# Altium footprint library My Little Freind.PcbLib: 15 footprints
Each footprint in its own frame and in the unit in brackets; x right, y up, seen from the top. Pads: shape width x height; smd on the part's side, far side on the other; paste and mask are expansions set on the pad; w line width, h text height; cw(c..) or ccw(c..) is an arc to the next point about the centre after c.
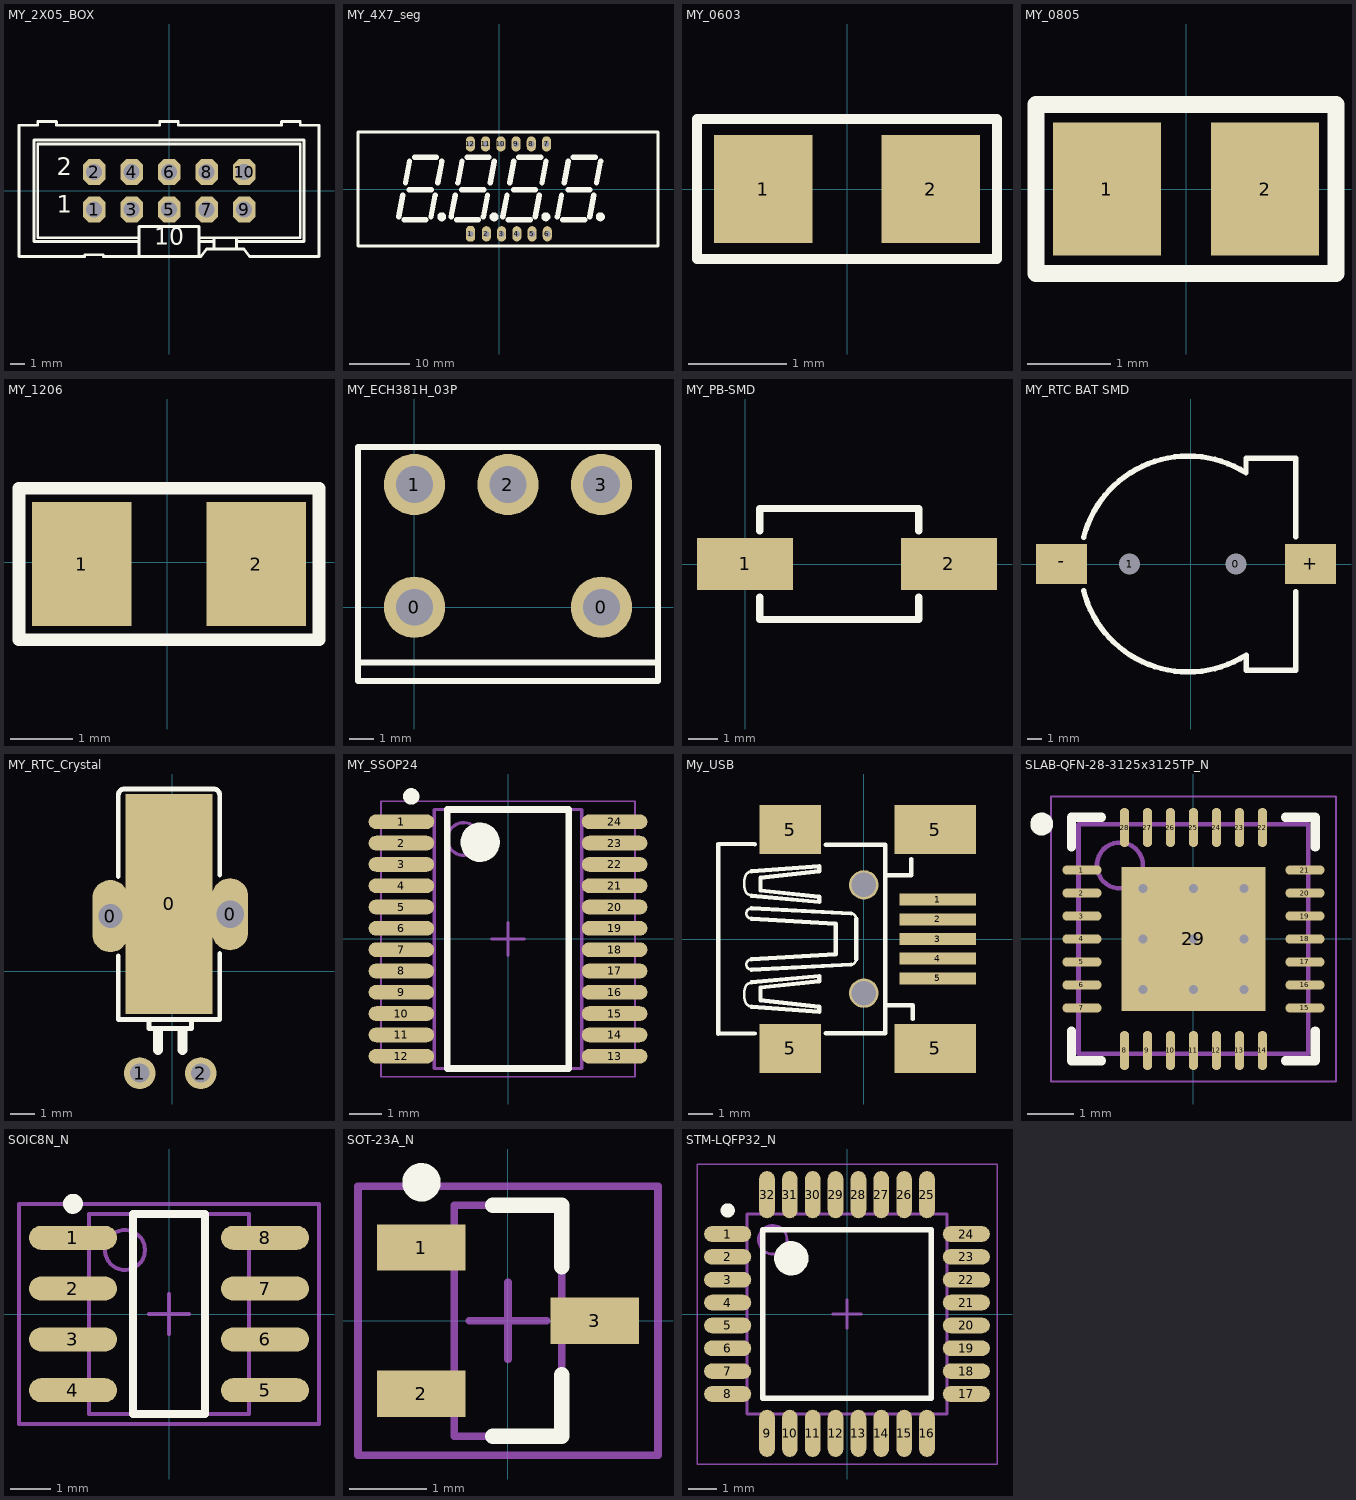
[diagram p0: the footprints below, top view; thin cyan lines are the x and y axes]

## MY_2X05_BOX [mil]
pads (10):
  oct 60x70 hole 43.31: 1(-200,-50) 2(-200,50) 3(-100,-50) 4(-100,50) 5(0,-50) 6(0,50) 7(100,-50) 8(100,50) 9(200,-50) 10(200,50)
Top Overlay:
  lines w7: -80,-175 -175,-175 -175,-170 -225,-170 -225,-175 -400,-175 -400,175 -350,175 -350,185 -300,185 -300,175 -25,175 -25,185 25,185 25,175 300,175 300,185 350,185 350,175 400,175 400,-175 215,-175 200,-155 180,-155 ; -80,-175 -80,-135 -80,-125 ; -80,-175 80,-175 ; -80,-125 -350,-125 -350,125 350,125 350,-125 180,-125 ; -80,-125 -80,-95 80,-95 80,-125 ; 80,-175 80,-135 80,-125 ; 80,-175 85,-175 100,-155 120,-155 ; 80,-125 120,-125 ; 120,-155 180,-155 ; 120,-155 120,-135 120,-125 ; 120,-125 180,-125 ; 180,-155 180,-135 180,-125
  lines w8: -80,-135 -360,-135 -360,135 360,135 360,-135 180,-135 ; 80,-135 120,-135
  text "2" at -300,25 h80
  text "1" at -300,-75 h80
  text "10" at -40,-160 h79
3D body "SW3dPS-HDB-10.STEP": height 347.06, standoff -117.51, extent -399.63,-179.07 395.64,191.01

## MY_4X7_seg [mm]
pads (12):
  oct 1.524x2.54 hole 1: 1(-4.8,-7.424)
  oval 1.524x2.54 hole 1: 2(-2.133,-7.424) 3(0.407,-7.424) 4(2.947,-7.424) 5(5.487,-7.424) 6(8.027,-7.424) 7(7.9,7.576) 8(5.36,7.576) 9(2.82,7.576) 10(0.28,7.576) 11(-2.26,7.576) 12(-4.8,7.576)
Top Overlay:
  circle w0.889: c-9.585,-4.589 r0.296
  circle w0.889: c-0.848,-4.589 r0.296
  circle w0.889: c16.882,-4.589 r0.296
  circle w0.889: c7.788,-4.589 r0.296
  lines w0.508: -23.546,-9.474 26.492,-9.474 ; -23.546,-9.424 -23.546,9.576 26.454,9.576 ; 26.492,-9.424 26.492,9.576
  lines w0.889: -16.757,-4.596 -16.075,-0.967 ; -15.862,-5.058 -12.211,-5.055 ; -15.624,1.064 -14.942,4.697 ; -14.978,-0.051 -11.329,-0.051 ; -14.1,5.358 -10.451,5.358 ; -11.37,-4.598 -10.685,-0.967 ; -10.238,1.065 -9.55,4.697 ; -8.019,-4.596 -7.337,-0.967 ; -7.124,-5.058 -3.474,-5.055 ; -6.886,1.064 -6.205,4.697 ; -6.241,-0.051 -2.592,-0.051 ; -5.362,5.358 -1.713,5.358 ; -2.633,-4.598 -1.947,-0.967 ; -1.501,1.065 -0.813,4.697 ; 0.617,-4.596 1.299,-0.967 ; 1.512,-5.058 5.162,-5.055 ; 1.75,1.064 2.431,4.697 ; 2.395,-0.051 6.044,-0.051 ; 3.274,5.358 6.923,5.358 ; 6.003,-4.598 6.689,-0.967 ; 7.135,1.065 7.823,4.697 ; 9.71,-4.596 10.392,-0.967 ; 10.605,-5.058 14.256,-5.055 ; 10.843,1.064 11.524,4.697 ; 11.488,-0.051 15.137,-0.051 ; 12.367,5.358 16.016,5.358 ; 15.097,-4.598 15.782,-0.967 ; 16.228,1.065 16.916,4.697
3D body "SW3dPS-ldq-n516r1.STEP": height 8.02, standoff -3.48, extent -23.571,-9.576 26.729,9.424

## MY_0603 [mm]
pads (2):
  rect 1x1.1 smd: 1(-0.85,0) 2(0.85,0)
Top Overlay:
  lines w0.102: -1.524,-0.711 1.524,-0.711 1.524,0.711 -1.524,0.711 -1.524,-0.711
3D body "User Library-SMD RESISTOR-1.STEP": height 0.44, standoff -0.01, extent -0.8,-0.4 0.8,0.4

## MY_0805 [mm]
pads (2):
  rect 1.3x1.6 smd: 1(-0.95,0) 2(0.95,0)
Top Overlay:
  lines w0.203: -1.803,-1.016 -1.803,1.016 1.803,1.016 1.803,-1.016 -1.803,-1.016
3D body "User Library-SMD RESISTOR-1.STEP": height 0.59, standoff -0.01, extent -1,-0.625 1,0.625

## MY_1206 [mm]
pads (2):
  rect 1.6x2 smd: 1(-1.375,-0.025) 2(1.425,-0.025)
Top Overlay:
  lines w0.203: -2.388,-1.245 -2.388,1.194 2.438,1.194 2.438,-1.245 -2.388,-1.245
3D body "User Library-SMD RESISTOR-1.STEP": height 0.59, standoff -0.01, extent -1.575,-0.825 1.625,0.775

## MY_ECH381H_03P [mm]
pads (5):
  round 2.5 hole 1.5: 0(0,0) 0(7.62,0) 1(0,5) 2(3.81,5) 3(7.62,5)
Top Overlay:
  lines w0.254: -2.25,-2.25 9.9,-2.25 ; 9.92,-3 9.92,6.525 ; 9.925,-3 -2.3,-3 -2.3,6.525 9.925,6.525
3D body "terminal_blocks_a-tb381-oq03ch.STEP": height 7.2, standoff -3.5, extent -2.3,-3.048 9.92,6.152

## MY_PB-SMD [mil]
pads (2):
  rect 130x70 smd: 1(0,0) 2(275.59,0)
Top Overlay:
  lines w10: 20,-45 20,-75 235,-75 235,-45 ; 20,45 20,75 235,75 235,45

## MY_RTC BAT SMD [mm]
pads (4):
  round 1 hole 1.5 unplated: 0(3.2,0) 1(-4.3,0)
  rect 3.6x2.8 smd: +(8.458,0) -(-9.093,0)
Top Overlay:
  lines w0.381: -7.539,-1.872 ccw(c-0.163,0.002) 3.915,-6.423 ; -7.537,1.883 cw(c-0.163,0.002) 3.913,6.428 ; 3.912,6.428 3.912,7.468 7.417,7.468 7.417,1.93 ; 3.937,-6.423 3.937,-7.493 7.417,-7.493 7.417,-1.956
3D body "User Library-Battery Holder for CR1220 SMD.STEP": height 4.26, standoff -0.49, extent -9.8,-7.4 9,7.349

## MY_RTC_Crystal [mil]
pads (5):
  oval 59.06x118.11 hole 39.37: 0(-101,90)
  rect 141.73x360 smd: 0(-5,110)
  oval 59.06x118.11 hole 45.28: 0(95,93)
  round 52 hole 31.5: 1(-53,-167) 2(47,-167)
Top Overlay:
  rectangle: -31,-119 -15,-96
  rectangle: 9,-119 25,-96
  lines w8: -88,25 -88,-79 -38,-79 ; -88,155 -88,288 cw(c-78,288) -78,298 68,298 cw(c68,288) 78,288 78,157 ; 78,29 78,-79 32,-79 ; -38,-79 32,-79 ; -38,-79 -38,-94 32,-94 32,-79
  lines w16: -23,-129 -23,-109 ; 17,-129 17,-114
3D body "User Library-Crystal TH.STEP": height 129.92, standoff 3.94, extent -68.91,-178.21 66.92,246

## MY_SSOP24 [mm] "TSOP, 24-Leads, Body 7.80x4.40mm, Pitch 0.65mm, IPC Medium Density"
height 1.1
pads (24):
  oval 2x0.45 smd: 1(-3.25,3.575) 2(-3.25,2.925) 3(-3.25,2.275) 4(-3.25,1.625) 5(-3.25,0.975) 6(-3.25,0.325) 7(-3.25,-0.325) 8(-3.25,-0.975) 9(-3.25,-1.625) 10(-3.25,-2.275) 11(-3.25,-2.925) 12(-3.25,-3.575) 13(3.25,-3.575) 14(3.25,-2.925) 15(3.25,-2.275) 16(3.25,-1.625) 17(3.25,-0.975) 18(3.25,-0.325) 19(3.25,0.325) 20(3.25,0.975) 21(3.25,1.625) 22(3.25,2.275) 23(3.25,2.925) 24(3.25,3.575)
Top Overlay:
  circle w0.6: c-0.85,2.95 r0.3
  circle w0.25: c-2.95,4.35 r0.125
  lines w0.2: -1.85,-3.95 1.85,-3.95 1.85,3.95 -1.85,3.95 -1.85,-3.95
Mechanical 13:
  circle w0.1: c-1.35,3.05 r0.5
  lines w0.1: -2.25,-3.95 2.25,-3.95 2.25,3.95 -2.25,3.95 -2.25,-3.95
Mechanical 15:
  lines w0.05: -3.875,-4.2 3.875,-4.2 3.875,4.2 -3.875,4.2 -3.875,-4.2
  lines w0.1: -0.5,0 0.5,0 ; 0,-0.5 0,0.5
3D body "User Library-SSOP-24.STEP": height 1.9, standoff 0, extent -3.9,-4.1 3.9,4.1

## My_USB [mm]
pads (11):
  rect 3.1x0.487 smd: 1(3,1.6) 2(3,0.8) 3(3,0) 4(3,-0.8) 5(3,-1.6)
  rect 2.5x2 smd: 5(-3,-4.45) 5(-3,4.45)
  rect 3.3x2 smd: 5(2.9,-4.45) 5(2.9,4.45)
  round 1.2 hole 1 unplated: ""(0,-2.2) ""(0,2.2)
Top Overlay:
  lines w0.102: -4.569,-2.751 cw(c-4.546,-2.457) -4.828,-2.543 cw(c-3.897,-2.258) -4.828,-1.972 cw(c-4.546,-2.059) -4.569,-1.765 ; -4.569,-1.246 cw(c-4.569,-1.038) -4.776,-1.038 cw(c-4.569,-1.038) -4.569,-0.83 ; -4.569,0.831 cw(c-4.569,1.038) -4.776,1.038 cw(c-4.569,1.038) -4.569,1.246 ; -4.569,1.765 cw(c-4.546,2.059) -4.828,1.973 cw(c-3.897,2.258) -4.828,2.544 cw(c-4.546,2.458) -4.569,2.752 ; -0.519,-1.038 ccw(c-0.531,-0.818) -0.312,-0.83 ; -0.519,1.038 cw(c-0.531,0.819) -0.312,0.831
  lines w0.178: -5.923,-3.847 -5.923,3.847 ; -4.569,-2.751 -1.817,-2.959 -1.817,-2.751 -4.205,-2.491 -4.205,-1.972 -1.817,-1.713 -1.817,-1.505 -4.569,-1.765 ; -4.568,-1.246 -0.519,-1.038 ; -4.569,-0.83 -1.142,-0.623 -1.142,0.623 -4.569,0.831 ; -4.568,1.246 -0.519,1.038 ; -4.569,1.765 -1.817,1.506 -1.817,1.713 -4.205,1.973 -4.205,2.492 -1.817,2.752 -1.817,2.959 -4.569,2.752 ; -4.445,-3.841 -5.918,-3.841 ; -4.445,3.861 -5.918,3.861 -5.918,-3.841 ; -1.549,-3.835 0.87,-3.835 0.87,3.835 -1.549,3.835 ; -0.312,-0.83 -0.312,0.831 ; 0.864,2.591 1.93,2.591 1.93,3.251 ; 0.889,-2.7 1.981,-2.7 1.981,-3.251 ; -5.918,-3.841 -5.918,-3.841
3D body "SW3dPS-USB_mini_B.STEP": height 3.97, standoff -0.98, extent -5.921,-5.315 3.279,5.385

## SLAB-QFN-28-3125x3125TP_N [mm]
pads (29):
  oval 0.85x0.2 smd: 1(-2.425,1.5) 2(-2.425,1) 3(-2.425,0.5) 4(-2.425,0) 5(-2.425,-0.5) 6(-2.425,-1) 7(-2.425,-1.5) 15(2.425,-1.5) 16(2.425,-1) 17(2.425,-0.5) 18(2.425,0) 19(2.425,0.5) 20(2.425,1) 21(2.425,1.5)
  oval 0.2x0.85 smd: 8(-1.5,-2.425) 9(-1,-2.425) 10(-0.5,-2.425) 11(0,-2.425) 12(0.5,-2.425) 13(1,-2.425) 14(1.5,-2.425) 22(1.5,2.425) 23(1,2.425) 24(0.5,2.425) 25(0,2.425) 26(-0.5,2.425) 27(-1,2.425) 28(-1.5,2.425)
  rect 3.13x3.13 smd: 29(0,0)
via -1.1,1.1 diameter 0.5 hole 0.2
via 0,1.1 diameter 0.5 hole 0.2
via 1.1,1.1 diameter 0.5 hole 0.2
via -1.1,0 diameter 0.5 hole 0.2
via 0,0 diameter 0.5 hole 0.2
via 1.1,0 diameter 0.5 hole 0.2
via -1.1,-1.1 diameter 0.5 hole 0.2
via 0,-1.1 diameter 0.5 hole 0.2
via 1.1,-1.1 diameter 0.5 hole 0.2
Top Overlay:
  circle w0.25: c-3.3,2.5 r0.125
  lines w0.2: -2.65,-2 -2.65,-2.65 -2,-2.65 ; -2.65,2 -2.65,2.65 -2,2.65 ; 2,-2.65 2.65,-2.65 2.65,-2 ; 2,2.65 2.65,2.65 2.65,2
Mechanical 13:
  circle w0.1: c-1.6,1.6 r0.5
  lines w0.1: -2.5,-2.5 -2.5,2.5 2.5,2.5 2.5,-2.5 -2.5,-2.5
Mechanical 15:
  lines w0.05: -3.1,-3.1 -3.1,3.1 3.1,3.1 3.1,-3.1 -3.1,-3.1
  lines w0.1: -0.5,0 0.5,0 ; 0,-0.5 0,0.5
3D body: height 1, standoff 0, extent -2.5,-2.5 2.5,2.5

## SOIC8N_N [mm]
pads (8):
  oval 2.2x0.6 smd: 1(-2.4,1.905) 2(-2.4,0.635) 3(-2.4,-0.635) 4(-2.4,-1.905) 5(2.4,-1.905) 6(2.4,-0.635) 7(2.4,0.635) 8(2.4,1.905)
Top Overlay:
  circle w0.25: c-2.4,2.755 r0.125
  lines w0.2: -0.9,-2.5 -0.9,2.5 0.9,2.5 0.9,-2.5 -0.9,-2.5
Mechanical 13:
  circle w0.1: c-1.1,1.6 r0.5
  lines w0.1: -2,-2.5 -2,2.5 2,2.5 2,-2.5 -2,-2.5
Mechanical 15:
  lines w0.1: -0.5,0 0.5,0 ; 0,-0.5 0,0.5 ; -3.75,-2.75 -3.75,2.75 3.75,2.75 3.75,-2.75 -3.75,-2.75
3D body: height 1.75, standoff 0, extent -2,-2.5 2,2.5

## SOT-23A_N [mm]
pads (3):
  rect 1.15x0.6 smd: 1(-1.125,0.95) 2(-1.125,-0.95) 3(1.125,0)
Top Overlay:
  circle w0.25: c-1.125,1.8 r0.125
  lines w0.2: -0.2,-1.5 0.7,-1.5 0.7,-0.7 ; -0.2,1.5 0.7,1.5 0.7,0.7
Mechanical 13:
  lines w0.1: -0.7,-1.5 0.7,-1.5 0.7,1.5 -0.7,1.5 -0.7,-1.5
Mechanical 15:
  lines w0.1: -0.5,0 0.5,0 ; 0,-0.5 0,0.5 ; -1.95,-1.75 1.95,-1.75 1.95,1.75 -1.95,1.75 -1.95,-1.75
3D body: height 1.09, standoff 0, extent -0.7,-1.5 0.7,1.5

## STM-LQFP32_N [mm]
pads (32):
  oval 1.65x0.55 smd: 1(-4.175,2.8) 2(-4.175,2) 3(-4.175,1.2) 4(-4.175,0.4) 5(-4.175,-0.4) 6(-4.175,-1.2) 7(-4.175,-2) 8(-4.175,-2.8) 17(4.175,-2.8) 18(4.175,-2) 19(4.175,-1.2) 20(4.175,-0.4) 21(4.175,0.4) 22(4.175,1.2) 23(4.175,2) 24(4.175,2.8)
  oval 0.55x1.65 smd: 9(-2.8,-4.175) 10(-2,-4.175) 11(-1.2,-4.175) 12(-0.4,-4.175) 13(0.4,-4.175) 14(1.2,-4.175) 15(2,-4.175) 16(2.8,-4.175) 25(2.8,4.175) 26(2,4.175) 27(1.2,4.175) 28(0.4,4.175) 29(-0.4,4.175) 30(-1.2,4.175) 31(-2,4.175) 32(-2.8,4.175)
Top Overlay:
  circle w0.6: c-1.95,1.95 r0.3
  circle w0.25: c-4.175,3.625 r0.125
  lines w0.2: -2.95,-2.95 2.95,-2.95 2.95,2.95 -2.95,2.95 -2.95,-2.95
Mechanical 13:
  circle w0.1: c-2.6,2.6 r0.5
  lines w0.1: -3.5,-3.5 3.5,-3.5 3.5,3.5 -3.5,3.5 -3.5,-3.5
Mechanical 15:
  lines w0.05: -5.25,-5.25 5.25,-5.25 5.25,5.25 -5.25,5.25 -5.25,-5.25
  lines w0.1: -0.5,0 0.5,0 ; 0,-0.5 0,0.5
3D body: height 1.6, standoff 0.05, extent -3.5,-3.5 3.5,3.5